# EAGLE library part 74FCT543A (library A3660)
By Edu Arana
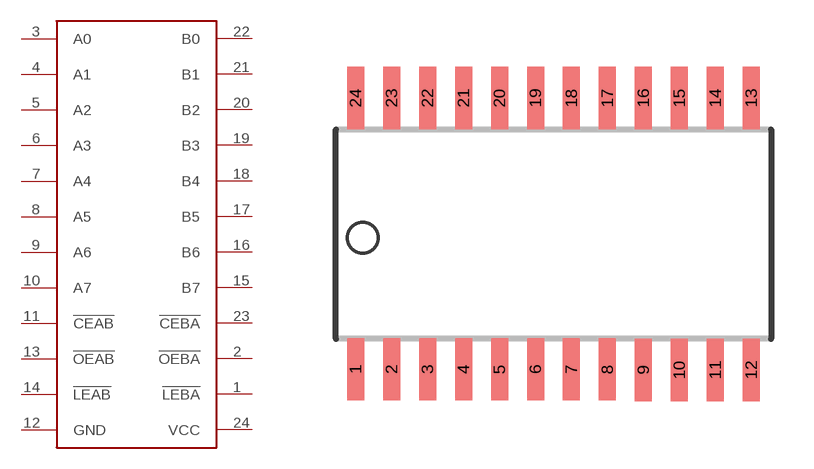
[diagram p4: symbol with the pads of 74FCT543A; footprint 74FCT543A]

Designator prefix -

## 74FCT543A  [74FCT543A]
1  !LEBA
2  !OEBA
3  A0
4  A1
5  A2
6  A3
7  A4
8  A5
9  A6
10  A7
11  !CEAB
12  GND
13  !OEAB
14  !LEAB
15  B7
16  B6
17  B5
18  B4
19  B3
20  B2
21  B1
22  B0
23  !CEBA
24  VCC

## Footprint 74FCT543A (pad centres in mm)
smd 0.6 x 2.2: 1 -6.985,-4.775; 2 -5.715,-4.775; 3 -4.445,-4.775; 4 -3.175,-4.775; 5 -1.905,-4.775; 6 -0.635,-4.775; 7 0.635,-4.775; 8 1.905,-4.775; 9 3.175,-4.8; 10 4.445,-4.8; 11 5.715,-4.8; 12 6.985,-4.8; 13 6.985,4.8; 14 5.715,4.8; 15 4.445,4.8; 16 3.175,4.8; 17 1.905,4.8; 18 0.635,4.8; 19 -0.635,4.8; 20 -1.905,4.8; 21 -3.175,4.8; 22 -4.445,4.8; 23 -5.715,4.8; 24 -6.985,4.8